# EAGLE library part 4053 (library ee2parts)
Triple 2-channel ANALOG MULTIPLEXER
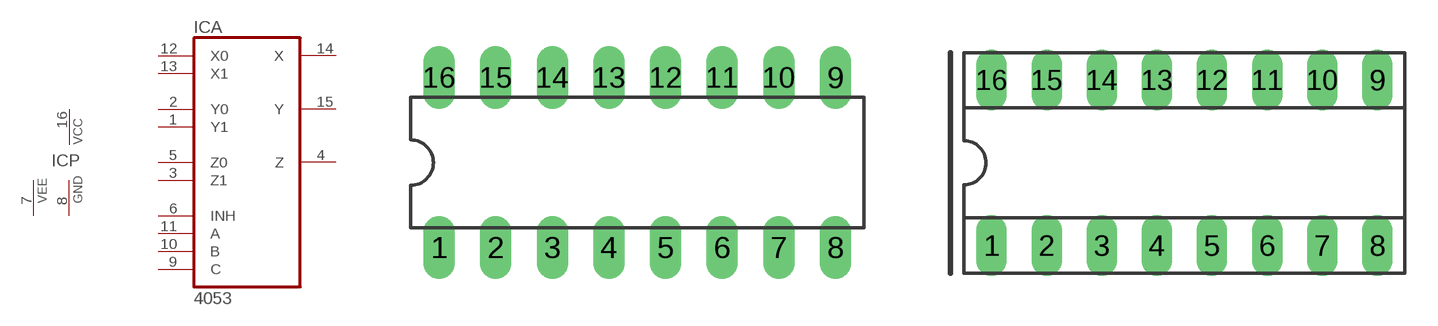
[diagram p1: symbol with the pads of DIL16; footprints DIL16, SOCKED-16]

Designator prefix IC; gates A=4053 P=PWR+VEE

## 4053N  [DIL16]
1  A:Y1
2  A:Y0
3  A:Z1
4  A:Z
5  A:Z0
6  A:INH  in
7  P:VEE  pwr
8  P:GND  pwr
9  A:C  in
10  A:B  in
11  A:A  in
12  A:X0
13  A:X1
14  A:X
15  A:Y
16  P:VCC  pwr

## 4053S  [SOCKED-16]
Pads as for DIL16

## Footprint DIL16 (pad centres in mm)
Dual In Line Package
drill 0.9 long: 1 -8.89,-3.81; 2 -6.35,-3.81; 3 -3.81,-3.81; 4 -1.27,-3.81; 5 1.27,-3.81; 6 3.81,-3.81; 7 6.35,-3.81; 8 8.89,-3.81; 9 8.89,3.81; 10 6.35,3.81; 11 3.81,3.81; 12 1.27,3.81; 13 -1.27,3.81; 14 -3.81,3.81; 15 -6.35,3.81; 16 -8.89,3.81

## Footprint SOCKED-16 (pad centres in mm)
Dual In Line Socket
drill 0.9 long: 1 -8.89,-3.81; 2 -6.35,-3.81; 3 -3.81,-3.81; 4 -1.27,-3.81; 5 1.27,-3.81; 6 3.81,-3.81; 7 6.35,-3.81; 8 8.89,-3.81; 9 8.89,3.81; 10 6.35,3.81; 11 3.81,3.81; 12 1.27,3.81; 13 -1.27,3.81; 14 -3.81,3.81; 15 -6.35,3.81; 16 -8.89,3.81